# Altium footprint library HDRV3W64P254_1X3_762X254X900B.PcbLib: 1 footprints
Each footprint in its own frame and in the unit in brackets; x right, y up, seen from the top. Pads: shape width x height; smd on the part's side, far side on the other; paste and mask are expansions set on the pad; w line width, h text height; cw(c..) or ccw(c..) is an arc to the next point about the centre after c.
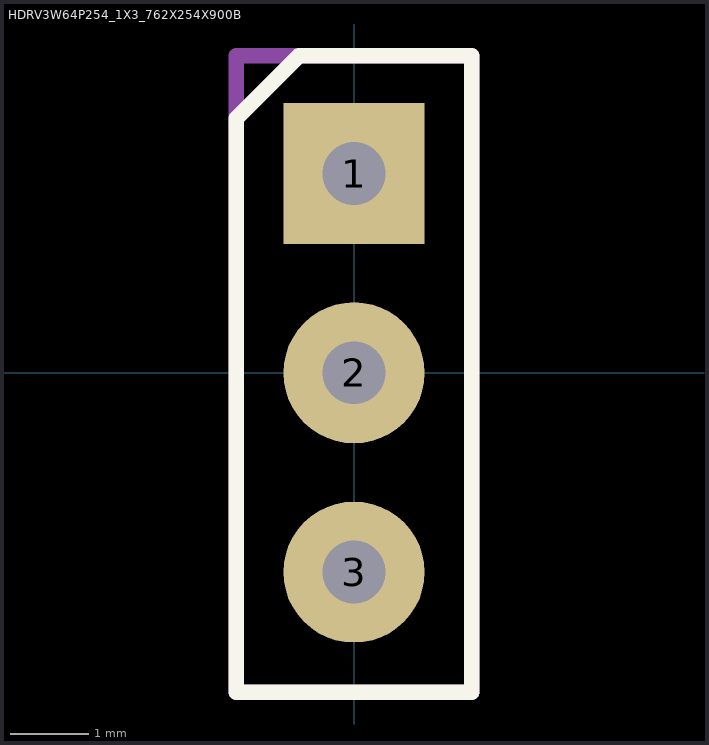
[diagram p0: the footprint, top view; thin cyan lines are the x and y axes]

## HDRV3W64P254_1X3_762X254X900B [mm] "Header 1x3"
height 9
pads (3):
  rect 1.8x1.8 hole 0.8: 1(0,2.54)
  round 1.8 hole 0.8: 2(0,0) 3(0,-2.54)
Top Overlay:
  lines w0.2: -1.5,-4.07 -1.5,3.24 -0.7,4.04 1.5,4.04 1.5,-4.07 -1.5,-4.07
Mechanical 13:
  lines w0.2: -1.5,-4.07 1.5,-4.07 1.5,4.04 -1.5,4.04 -1.5,-4.07
Mechanical 15:
  lines w0.2: -0.5,0 0.5,0 ; 0,-0.5 0,0.5 ; -1.5,-4.07 -1.5,4.04 1.5,4.04 1.5,-4.07 -1.5,-4.07